# EAGLE library part DS1E-L* (library relay2)
DS-RELAYS HIGHLY SENSITIVE 1500 V FCC SURGE NAiS WITHSTANDING MINIATURE RELAY Source: http://www.mew-europe.com/.. en_ds_61005_0001.pdf
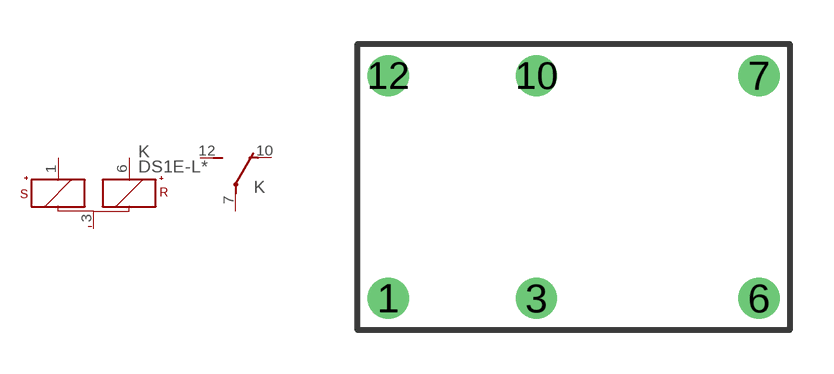
[diagram p67: symbol with the pads of DS1E-L; footprint DS1E-L]

Designator prefix K; gates 2=U 1=+KS+KR-

## DS1E-L1.5V (OC_FARNELL: unknown; OC_NEWARK: unknown), DS1E-L12V (MPN: DS1E-SL-DC12V; OC_FARNELL: unknown; OC_NEWARK: 13P3222), DS1E-L24V (OC_FARNELL: unknown; OC_NEWARK: unknown), DS1E-L3V (OC_FARNELL: unknown; OC_NEWARK: unknown), DS1E-L48V (MF: AROMAT/ MATSUSHITA; MPN: DS1E-SL-DC48V; OC_FARNELL: unknown; OC_NEWARK: 10C5700), DS1E-L5V (MF: AROMAT/ MATSUSHITA; MPN: DS1E-SL-DC5V; OC_FARNELL: unknown; OC_NEWARK: 10C5701), DS1E-L6V (OC_FARNELL: unknown; OC_NEWARK: unknown), DS1E-L9V (OC_FARNELL: unknown; OC_NEWARK: unknown)  [DS1E-L]
1  1:S+  pas
3  1:-  pas
6  1:R+  pas
7  2:P  pas
10  2:O  pas
12  2:S  pas

## Footprint DS1E-L (pad centres in mm)
DS-RELAYS HIGHLY SENSITIVE 1500 V FCC SURGE NAiS WITHSTANDING MINIATURE RELAY Source: http://www.mew-europe.com/.. en_ds_61005_0001.pdf
drill 0.9: 1 -6.35,-3.81; 3 -1.27,-3.81; 6 6.35,-3.81; 7 6.35,3.81; 10 -1.27,3.81; 12 -6.35,3.81